# Altium footprint library SS12F27.PcbLib: 1 footprints
Each footprint in its own frame and in the unit in brackets; x right, y up, seen from the top. Pads: shape width x height; smd on the part's side, far side on the other; paste and mask are expansions set on the pad; w line width, h text height; cw(c..) or ccw(c..) is an arc to the next point about the centre after c.
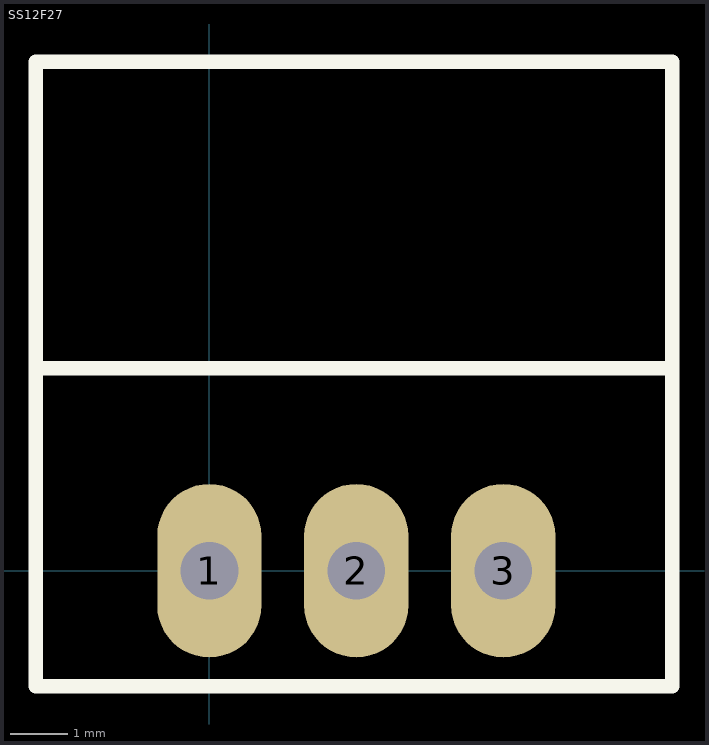
[diagram p0: the footprint, top view; thin cyan lines are the x and y axes]

## SS12F27 [mm] "Switch"
pads (3):
  oval 1.8x3 hole 1: 1(0,0) 2(2.54,0) 3(5.08,0)
Top Overlay:
  lines w0.254: -3,3.5 8,3.5 ; -3,-2 -3,8.8 8,8.8 8,-2 -3,-2
3D body "переключатель движковой угловой.stp": height 6, standoff -2, extent -2.9,-0.2 8.1,13.8